# Altium footprint library Spec-ALPSAlpine-Encoder.PcbLib: 1 footprints
Each footprint in its own frame and in the unit in brackets; x right, y up, seen from the top. Pads: shape width x height; smd on the part's side, far side on the other; paste and mask are expansions set on the pad; w line width, h text height; cw(c..) or ccw(c..) is an arc to the next point about the centre after c.
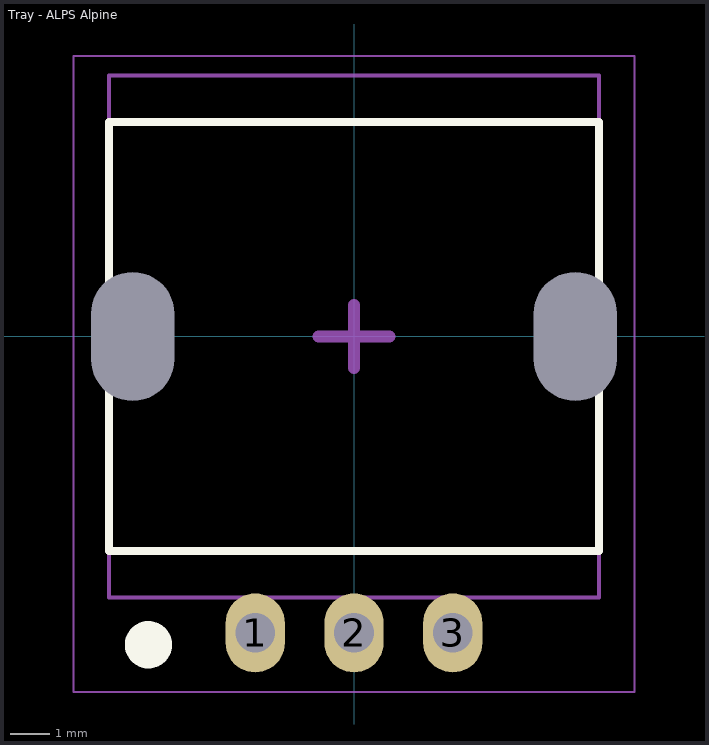
[diagram p0: the footprint, top view; thin cyan lines are the x and y axes]

## Tray - ALPS Alpine [mm]
pads (5):
  oval 1.5x2 hole 1: 1(-2.5,-7.5) 2(0,-7.5) 3(2.5,-7.5)
  round 1.7 hole 2.1 slot 3.25 at 90 deg unplated paste-2539.97 mask+0: ""(-5.6,0) ""(5.6,0)
Top Overlay:
  circle w0.6: c-5.2,-7.8 r0.3
  lines w0.2: -6.2,-5.425 6.2,-5.425 6.2,5.425 -6.2,5.425 -6.2,-5.425
Top 3D Body:
  lines w0.1: -6.2,-6.6 6.2,-6.6 6.2,6.6 -6.2,6.6 -6.2,-6.6
  text "1" at -3.246,-5.846 h1.52
Top Courtyard:
  lines w0.05: -7.1,-9 7.1,-9 7.1,7.1 -7.1,7.1 -7.1,-4.088 -7.1,-9
  lines w0.3: -0.9,0 0.9,0 ; 0,-0.8 0,0.8
Top Designator (Mech29):
  text ".Designator" at 0.508,-5.718 h1.52
3D body: height 5, standoff 0, extent -6.2,-6.6 6.2,6.6